# Altium footprint library PHB2.0.PcbLib: 14 footprints
Each footprint in its own frame and in the unit in brackets; x right, y up, seen from the top. Pads: shape width x height; smd on the part's side, far side on the other; paste and mask are expansions set on the pad; w line width, h text height; cw(c..) or ccw(c..) is an arc to the next point about the centre after c.
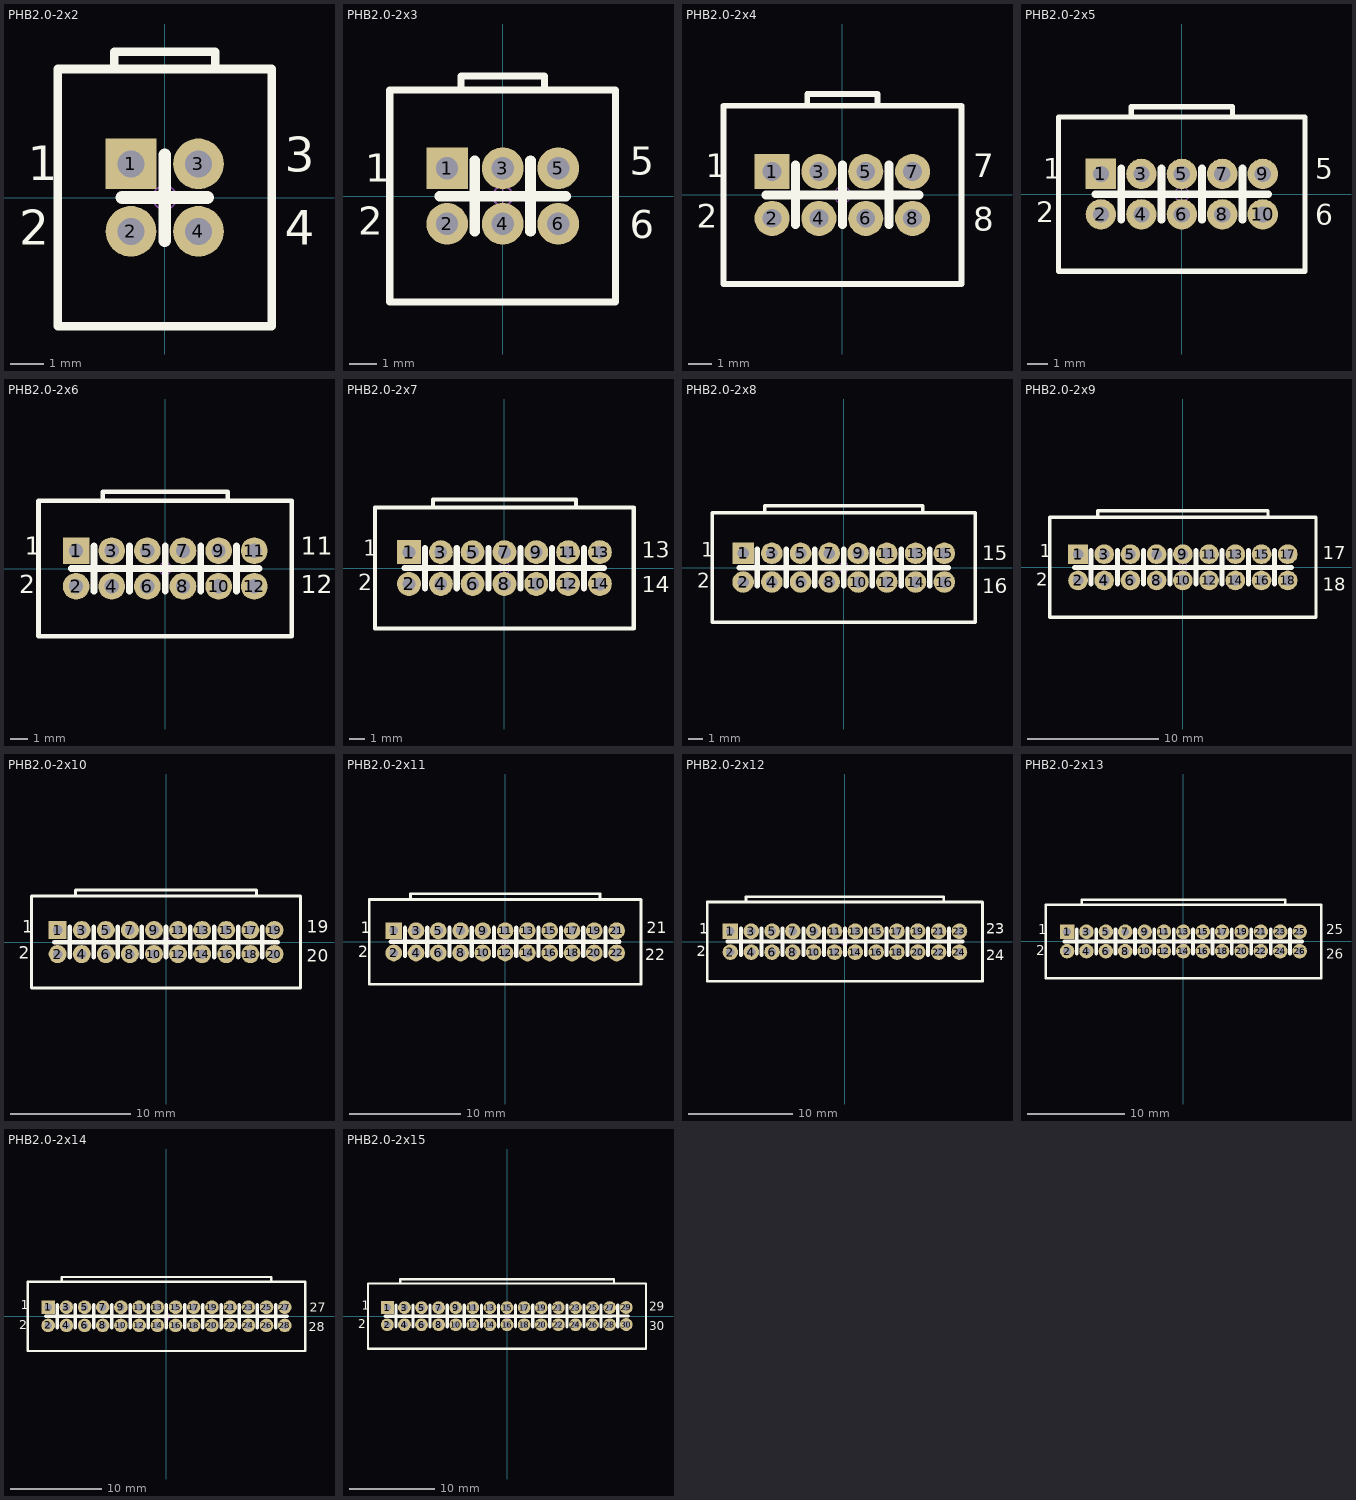
[diagram p0: the footprints below, top view; thin cyan lines are the x and y axes]

## PHB2.0-2x2 [mm] "长：6mm，宽：7.3mm，高：7.8mm"
pads (4):
  rect 1.5x1.5 hole 0.8: 1(-1,1)
  round 1.5 hole 0.8: 2(-1,-1) 3(1,1) 4(1,-1)
Top Overlay:
  lines w0.254: -1.5,3.81 -1.5,4.318 1.5,4.318 1.5,3.81 ; -3.175,-3.81 3.175,-3.81 3.175,3.81 -3.175,3.81 -3.175,-3.81
  lines w0.381: -1.27,0 1.27,0 ; 0,-1.27 0,1.27
  text "1" at -4.064,0.508 h1.02
  text "2" at -4.318,-1.397 h1.02
  text "3" at 3.556,0.762 h1.02
  text "4" at 3.556,-1.397 h1.02
Bottom Overlay:
  lines w0.381: -1.27,0 1.27,0 ; 0,-1.27 0,1.27
Mechanical 15:
  circle w0.05: c0,0 r0.35
  lines w0.05: -0.5,0 0.5,0 ; 0,-0.5 0,0.5
3D body: height 7.83, standoff -3.37, extent -3,-3.65 3,4.25

## PHB2.0-2x3 [mm] "长：8mm，宽：7.3mm，高：7.8mm"
pads (6):
  rect 1.5x1.5 hole 0.8: 1(-2,1)
  round 1.5 hole 0.8: 2(-2,-1) 3(0,1) 4(0,-1) 5(2,1) 6(2,-1)
Top Overlay:
  lines w0.254: -1.5,3.81 -1.5,4.318 1.5,4.318 1.5,3.81 ; -4.064,-3.81 4.064,-3.81 4.064,3.81 -4.064,3.81 -4.064,-3.81
  lines w0.381: -2.27,0 0.27,0 ; -1,-1.27 -1,1.27 ; -0.27,0 2.27,0 ; 1,-1.27 1,1.27
  text "1" at -4.953,0.508 h1.02
  text "5" at 4.572,0.762 h1.02
  text "6" at 4.572,-1.524 h1.02
  text "2" at -5.207,-1.397 h1.02
Bottom Overlay:
  lines w0.381: -2.27,0 0.27,0 ; -1,-1.27 -1,1.27 ; -0.27,0 2.27,0 ; 1,-1.27 1,1.27
Mechanical 15:
  circle w0.05: c0,0 r0.35
  lines w0.05: -0.5,0 0.5,0 ; 0,-0.5 0,0.5
3D body: height 7.83, standoff -3.37, extent -4,-3.65 4,4.25

## PHB2.0-2x4 [mm] "长：10mm，宽：7.3mm，高：7.8mm"
pads (8):
  rect 1.5x1.5 hole 0.8: 1(-3,1)
  round 1.5 hole 0.8: 2(-3,-1) 3(-1,1) 4(-1,-1) 5(1,1) 6(1,-1) 7(3,1) 8(3,-1)
Top Overlay:
  lines w0.254: -1.5,3.81 -1.5,4.318 1.5,4.318 1.5,3.81 ; -5.08,-3.81 -5.08,3.81 5.08,3.81 5.08,-3.81 -5.08,-3.81
  lines w0.381: -3.27,0 -0.73,0 ; -2,-1.27 -2,1.27 ; -1.27,0 1.27,0 ; 0,-1.27 0,1.27 ; 0.73,0 3.27,0 ; 2,-1.27 2,1.27
  text "8" at 5.588,-1.524 h1.02
  text "7" at 5.588,0.762 h1.02
  text "1" at -5.842,0.762 h1.02
  text "2" at -6.207,-1.397 h1.02
Bottom Overlay:
  lines w0.381: -3.27,0 -0.73,0 ; -2,-1.27 -2,1.27 ; -1.27,0 1.27,0 ; 0,-1.27 0,1.27 ; 0.73,0 3.27,0 ; 2,-1.27 2,1.27
Mechanical 15:
  circle w0.05: c0,0 r0.35
  lines w0.05: -0.5,0 0.5,0 ; 0,-0.5 0,0.5
3D body: height 7.83, standoff -3.37, extent -5,-3.65 5,4.25

## PHB2.0-2x5 [mm] "长：12mm，宽：7.3mm，高：7.8mm"
pads (10):
  rect 1.5x1.5 hole 0.8: 1(-4,1)
  round 1.5 hole 0.8: 2(-4,-1) 3(-2,1) 4(-2,-1) 5(0,1) 6(0,-1) 7(2,1) 8(2,-1) 9(4,1) 10(4,-1)
Top Overlay:
  lines w0.254: -2.5,3.81 -2.5,4.318 2.5,4.318 2.5,3.81 ; -6.096,-3.81 -6.096,3.81 6.096,3.81 6.096,-3.81 -6.096,-3.81
  lines w0.381: -4.27,0 -1.73,0 ; -3,-1.27 -3,1.27 ; -2.27,0 0.27,0 ; -1,-1.27 -1,1.27 ; -0.27,0 2.27,0 ; 1,-1.27 1,1.27 ; 1.73,0 4.27,0 ; 3,-1.27 3,1.27
  text "6" at 6.604,-1.524 h1.02
  text "5" at 6.604,0.762 h1.02
  text "1" at -6.858,0.762 h1.02
  text "2" at -7.207,-1.397 h1.02
Bottom Overlay:
  lines w0.381: -4.27,0 -1.73,0 ; -3,-1.27 -3,1.27 ; -2.27,0 0.27,0 ; -1,-1.27 -1,1.27 ; -0.27,0 2.27,0 ; 1,-1.27 1,1.27 ; 1.73,0 4.27,0 ; 3,-1.27 3,1.27
Mechanical 15:
  circle w0.05: c0,0 r0.35
  lines w0.05: -0.5,0 0.5,0 ; 0,-0.5 0,0.5
3D body: height 7.83, standoff -3.37, extent -6,-3.65 6,4.25

## PHB2.0-2x6 [mm] "长：14mm，宽：7.3mm，高：7.8mm"
pads (12):
  rect 1.5x1.5 hole 0.8: 1(-5,1)
  round 1.5 hole 0.8: 2(-5,-1) 3(-3,1) 4(-3,-1) 5(-1,1) 6(-1,-1) 7(1,1) 8(1,-1) 9(3,1) 10(3,-1) 11(5,1) 12(5,-1)
Top Overlay:
  lines w0.254: -3.5,3.81 -3.5,4.318 3.5,4.318 3.5,3.81 ; -7.112,-3.81 7.112,-3.81 7.112,3.81 -7.112,3.81 -7.112,-3.81
  lines w0.381: -5.27,0 -2.73,0 ; -4,-1.27 -4,1.27 ; -3.27,0 -0.73,0 ; -2,-1.27 -2,1.27 ; -1.27,0 1.27,0 ; 0,-1.27 0,1.27 ; 0.73,0 3.27,0 ; 2,-1.27 2,1.27 ; 2.73,0 5.27,0 ; 4,-1.27 4,1.27
  text "12" at 7.62,-1.397 h1.02
  text "1" at -7.874,0.762 h1.02
  text "11" at 7.62,0.762 h1.02
  text "2" at -8.207,-1.397 h1.02
Bottom Overlay:
  lines w0.381: -5.27,0 -2.73,0 ; -4,-1.27 -4,1.27 ; -3.27,0 -0.73,0 ; -2,-1.27 -2,1.27 ; -1.27,0 1.27,0 ; 0,-1.27 0,1.27 ; 0.73,0 3.27,0 ; 2,-1.27 2,1.27 ; 2.73,0 5.27,0 ; 4,-1.27 4,1.27
Mechanical 15:
  circle w0.05: c0,0 r0.35
  lines w0.05: -0.5,0 0.5,0 ; 0,-0.5 0,0.5
3D body: height 7.83, standoff -3.37, extent -7,-3.65 7,4.25

## PHB2.0-2x7 [mm] "长：16mm，宽：7.3mm，高：7.8mm"
pads (14):
  rect 1.5x1.5 hole 0.8: 1(-6,1)
  round 1.5 hole 0.8: 2(-6,-1) 3(-4,1) 4(-4,-1) 5(-2,1) 6(-2,-1) 7(0,1) 8(0,-1) 9(2,1) 10(2,-1) 11(4,1) 12(4,-1) 13(6,1) 14(6,-1)
Top Overlay:
  lines w0.254: -4.5,3.81 -4.5,4.318 4.5,4.318 4.5,3.81 ; -8.128,-3.81 8.128,-3.81 8.128,3.81 -8.128,3.81 -8.128,-3.81
  lines w0.381: -6.27,0 -3.73,0 ; -5,-1.27 -5,1.27 ; -4.27,0 -1.73,0 ; -3,-1.27 -3,1.27 ; -2.27,0 0.27,0 ; -1,-1.27 -1,1.27 ; -0.27,0 2.27,0 ; 1,-1.27 1,1.27 ; 1.73,0 4.27,0 ; 3,-1.27 3,1.27 ; 3.73,0 6.27,0 ; 5,-1.27 5,1.27
  text "14" at 8.636,-1.524 h1.02
  text "1" at -8.89,0.762 h1.02
  text "13" at 8.636,0.635 h1.02
  text "2" at -9.207,-1.397 h1.02
Bottom Overlay:
  lines w0.381: -6.27,0 -3.73,0 ; -5,-1.27 -5,1.27 ; -4.27,0 -1.73,0 ; -3,-1.27 -3,1.27 ; -2.27,0 0.27,0 ; -1,-1.27 -1,1.27 ; -0.27,0 2.27,0 ; 1,-1.27 1,1.27 ; 1.73,0 4.27,0 ; 3,-1.27 3,1.27 ; 3.73,0 6.27,0 ; 5,-1.27 5,1.27
Mechanical 15:
  circle w0.05: c0,0 r0.35
  lines w0.05: -0.5,0 0.5,0 ; 0,-0.5 0,0.5
3D body: height 7.83, standoff -3.37, extent -8,-3.65 8,4.25

## PHB2.0-2x8 [mm] "长：18mm，宽：7.3mm，高：7.8mm"
pads (16):
  rect 1.5x1.5 hole 0.8: 1(-7,1)
  round 1.5 hole 0.8: 2(-7,-1) 3(-5,1) 4(-5,-1) 5(-3,1) 6(-3,-1) 7(-1,1) 8(-1,-1) 9(1,1) 10(1,-1) 11(3,1) 12(3,-1) 13(5,1) 14(5,-1) 15(7,1) 16(7,-1)
Top Overlay:
  lines w0.254: -5.5,3.81 -5.5,4.318 5.5,4.318 5.5,3.81 ; -9.144,-3.81 -9.144,3.81 9.144,3.81 9.144,-3.81 -9.144,-3.81
  lines w0.381: -7.27,0 -4.73,0 ; -6,-1.27 -6,1.27 ; -5.27,0 -2.73,0 ; -4,-1.27 -4,1.27 ; -3.27,0 -0.73,0 ; -2,-1.27 -2,1.27 ; -1.27,0 1.27,0 ; 0,-1.27 0,1.27 ; 0.73,0 3.27,0 ; 2,-1.27 2,1.27 ; 2.73,0 5.27,0 ; 4,-1.27 4,1.27 ; 4.73,0 7.27,0 ; 6,-1.27 6,1.27
  text "16" at 9.652,-1.778 h1.02
  text "15" at 9.652,0.508 h1.02
  text "1" at -9.906,0.762 h1.02
  text "2" at -10.207,-1.397 h1.02
Bottom Overlay:
  lines w0.381: -7.27,0 -4.73,0 ; -6,-1.27 -6,1.27 ; -5.27,0 -2.73,0 ; -4,-1.27 -4,1.27 ; -3.27,0 -0.73,0 ; -2,-1.27 -2,1.27 ; -1.27,0 1.27,0 ; 0,-1.27 0,1.27 ; 0.73,0 3.27,0 ; 2,-1.27 2,1.27 ; 2.73,0 5.27,0 ; 4,-1.27 4,1.27 ; 4.73,0 7.27,0 ; 6,-1.27 6,1.27
Mechanical 15:
  circle w0.05: c0,0 r0.35
  lines w0.05: -0.5,0 0.5,0 ; 0,-0.5 0,0.5
3D body: height 7.83, standoff -3.37, extent -9,-3.65 9,4.25

## PHB2.0-2x9 [mm] "长：20mm，宽：7.3mm，高：7.8mm"
pads (18):
  rect 1.5x1.5 hole 0.8: 1(-8,1)
  round 1.5 hole 0.8: 2(-8,-1) 3(-6,1) 4(-6,-1) 5(-4,1) 6(-4,-1) 7(-2,1) 8(-2,-1) 9(0,1) 10(0,-1) 11(2,1) 12(2,-1) 13(4,1) 14(4,-1) 15(6,1) 16(6,-1) 17(8,1) 18(8,-1)
Top Overlay:
  lines w0.254: -6.5,3.81 -6.5,4.318 6.5,4.318 6.5,3.81 ; -10.16,-3.81 -10.16,3.81 10.16,3.81 10.16,-3.81 -10.16,-3.81
  lines w0.381: -8.27,0 -5.73,0 ; -7,-1.27 -7,1.27 ; -6.27,0 -3.73,0 ; -5,-1.27 -5,1.27 ; -4.27,0 -1.73,0 ; -3,-1.27 -3,1.27 ; -2.27,0 0.27,0 ; -1,-1.27 -1,1.27 ; -0.27,0 2.27,0 ; 1,-1.27 1,1.27 ; 1.73,0 4.27,0 ; 3,-1.27 3,1.27 ; 3.73,0 6.27,0 ; 5,-1.27 5,1.27 ; 5.73,0 8.27,0 ; 7,-1.27 7,1.27
  text "18" at 10.668,-1.778 h1.02
  text "17" at 10.668,0.635 h1.02
  text "1" at -10.922,0.762 h1.02
  text "2" at -11.207,-1.397 h1.02
Bottom Overlay:
  lines w0.381: -8.27,0 -5.73,0 ; -7,-1.27 -7,1.27 ; -6.27,0 -3.73,0 ; -5,-1.27 -5,1.27 ; -4.27,0 -1.73,0 ; -3,-1.27 -3,1.27 ; -2.27,0 0.27,0 ; -1,-1.27 -1,1.27 ; -0.27,0 2.27,0 ; 1,-1.27 1,1.27 ; 1.73,0 4.27,0 ; 3,-1.27 3,1.27 ; 3.73,0 6.27,0 ; 5,-1.27 5,1.27 ; 5.73,0 8.27,0 ; 7,-1.27 7,1.27
Mechanical 15:
  circle w0.05: c0,0 r0.35
  lines w0.05: -0.5,0 0.5,0 ; 0,-0.5 0,0.5
3D body: height 7.83, standoff -3.37, extent -10,-3.65 10,4.25

## PHB2.0-2x10 [mm] "长：22mm，宽：7.3mm，高：7.8mm"
pads (20):
  rect 1.5x1.5 hole 0.8: 1(-9,1)
  round 1.5 hole 0.8: 2(-9,-1) 3(-7,1) 4(-7,-1) 5(-5,1) 6(-5,-1) 7(-3,1) 8(-3,-1) 9(-1,1) 10(-1,-1) 11(1,1) 12(1,-1) 13(3,1) 14(3,-1) 15(5,1) 16(5,-1) 17(7,1) 18(7,-1) 19(9,1) 20(9,-1)
Top Overlay:
  lines w0.254: -7.5,3.81 -7.5,4.318 7.5,4.318 7.5,3.81 ; -11.176,-3.81 -11.176,3.81 11.176,3.81 11.176,-3.81 -11.176,-3.81
  lines w0.381: -9.27,0 -6.73,0 ; -8,-1.27 -8,1.27 ; -7.27,0 -4.73,0 ; -6,-1.27 -6,1.27 ; -5.27,0 -2.73,0 ; -4,-1.27 -4,1.27 ; -3.27,0 -0.73,0 ; -2,-1.27 -2,1.27 ; -1.27,0 1.27,0 ; 0,-1.27 0,1.27 ; 0.73,0 3.27,0 ; 2,-1.27 2,1.27 ; 2.73,0 5.27,0 ; 4,-1.27 4,1.27 ; 4.73,0 7.27,0 ; 6,-1.27 6,1.27 ; 6.73,0 9.27,0 ; 8,-1.27 8,1.27
  text "20" at 11.684,-1.651 h1.02
  text "19" at 11.684,0.762 h1.02
  text "1" at -11.938,0.762 h1.02
  text "2" at -12.207,-1.397 h1.02
Bottom Overlay:
  lines w0.381: -9.27,0 -6.73,0 ; -8,-1.27 -8,1.27 ; -7.27,0 -4.73,0 ; -6,-1.27 -6,1.27 ; -5.27,0 -2.73,0 ; -4,-1.27 -4,1.27 ; -3.27,0 -0.73,0 ; -2,-1.27 -2,1.27 ; -1.27,0 1.27,0 ; 0,-1.27 0,1.27 ; 0.73,0 3.27,0 ; 2,-1.27 2,1.27 ; 2.73,0 5.27,0 ; 4,-1.27 4,1.27 ; 4.73,0 7.27,0 ; 6,-1.27 6,1.27 ; 6.73,0 9.27,0 ; 8,-1.27 8,1.27
Mechanical 15:
  circle w0.05: c0,0 r0.35
  lines w0.05: -0.5,0 0.5,0 ; 0,-0.5 0,0.5
3D body: height 7.83, standoff -3.37, extent -11,-3.65 11,4.25

## PHB2.0-2x11 [mm] "长：24mm，宽：7.3mm，高：7.8mm"
pads (22):
  rect 1.5x1.5 hole 0.8: 1(-10,1)
  round 1.5 hole 0.8: 2(-10,-1) 3(-8,1) 4(-8,-1) 5(-6,1) 6(-6,-1) 7(-4,1) 8(-4,-1) 9(-2,1) 10(-2,-1) 11(0,1) 12(0,-1) 13(2,1) 14(2,-1) 15(4,1) 16(4,-1) 17(6,1) 18(6,-1) 19(8,1) 20(8,-1) 21(10,1) 22(10,-1)
Top Overlay:
  lines w0.254: -8.5,3.81 -8.5,4.318 8.5,4.318 8.5,3.81 ; -12.192,-3.81 12.192,-3.81 12.192,3.81 -12.192,3.81 -12.192,-3.81
  lines w0.381: -10.27,0 -7.73,0 ; -9,-1.27 -9,1.27 ; -8.27,0 -5.73,0 ; -7,-1.27 -7,1.27 ; -6.27,0 -3.73,0 ; -5,-1.27 -5,1.27 ; -4.27,0 -1.73,0 ; -3,-1.27 -3,1.27 ; -2.27,0 0.27,0 ; -1,-1.27 -1,1.27 ; -0.27,0 2.27,0 ; 1,-1.27 1,1.27 ; 1.73,0 4.27,0 ; 3,-1.27 3,1.27 ; 3.73,0 6.27,0 ; 5,-1.27 5,1.27 ; 5.73,0 8.27,0 ; 7,-1.27 7,1.27 ; 7.73,0 10.27,0 ; 9,-1.27 9,1.27
  text "2" at -13.207,-1.397 h1.02
  text "1" at -12.954,0.762 h1.02
  text "21" at 12.7,0.762 h1.02
  text "22" at 12.573,-1.651 h1.02
Bottom Overlay:
  lines w0.381: -10.27,0 -7.73,0 ; -9,-1.27 -9,1.27 ; -8.27,0 -5.73,0 ; -7,-1.27 -7,1.27 ; -6.27,0 -3.73,0 ; -5,-1.27 -5,1.27 ; -4.27,0 -1.73,0 ; -3,-1.27 -3,1.27 ; -2.27,0 0.27,0 ; -1,-1.27 -1,1.27 ; -0.27,0 2.27,0 ; 1,-1.27 1,1.27 ; 1.73,0 4.27,0 ; 3,-1.27 3,1.27 ; 3.73,0 6.27,0 ; 5,-1.27 5,1.27 ; 5.73,0 8.27,0 ; 7,-1.27 7,1.27 ; 7.73,0 10.27,0 ; 9,-1.27 9,1.27
Mechanical 15:
  circle w0.05: c0,0 r0.35
  lines w0.05: -0.5,0 0.5,0 ; 0,-0.5 0,0.5
3D body: height 7.83, standoff -3.37, extent -12,-3.65 12,4.25

## PHB2.0-2x12 [mm] "长：26mm，宽：7.3mm，高：7.8mm"
pads (24):
  rect 1.5x1.5 hole 0.8: 1(-11,1)
  round 1.5 hole 0.8: 2(-11,-1) 3(-9,1) 4(-9,-1) 5(-7,1) 6(-7,-1) 7(-5,1) 8(-5,-1) 9(-3,1) 10(-3,-1) 11(-1,1) 12(-1,-1) 13(1,1) 14(1,-1) 15(3,1) 16(3,-1) 17(5,1) 18(5,-1) 19(7,1) 20(7,-1) 21(9,1) 22(9,-1) 23(11,1) 24(11,-1)
Top Overlay:
  lines w0.254: -9.5,3.81 -9.5,4.318 9.5,4.318 9.5,3.81 ; -13.208,-3.81 13.208,-3.81 13.208,3.81 -13.208,3.81 -13.208,-3.81
  lines w0.381: -11.27,0 -8.73,0 ; -10,-1.27 -10,1.27 ; -9.27,0 -6.73,0 ; -8,-1.27 -8,1.27 ; -7.27,0 -4.73,0 ; -6,-1.27 -6,1.27 ; -5.27,0 -2.73,0 ; -4,-1.27 -4,1.27 ; -3.27,0 -0.73,0 ; -2,-1.27 -2,1.27 ; -1.27,0 1.27,0 ; 0,-1.27 0,1.27 ; 0.73,0 3.27,0 ; 2,-1.27 2,1.27 ; 2.73,0 5.27,0 ; 4,-1.27 4,1.27 ; 4.73,0 7.27,0 ; 6,-1.27 6,1.27 ; 6.73,0 9.27,0 ; 8,-1.27 8,1.27 ; 8.73,0 11.27,0 ; 10,-1.27 10,1.27
  text "2" at -14.207,-1.397 h1.02
  text "1" at -13.97,0.762 h1.02
  text "23" at 13.589,0.762 h1.02
  text "24" at 13.589,-1.778 h1.02
Bottom Overlay:
  lines w0.381: -11.27,0 -8.73,0 ; -10,-1.27 -10,1.27 ; -9.27,0 -6.73,0 ; -8,-1.27 -8,1.27 ; -7.27,0 -4.73,0 ; -6,-1.27 -6,1.27 ; -5.27,0 -2.73,0 ; -4,-1.27 -4,1.27 ; -3.27,0 -0.73,0 ; -2,-1.27 -2,1.27 ; -1.27,0 1.27,0 ; 0,-1.27 0,1.27 ; 0.73,0 3.27,0 ; 2,-1.27 2,1.27 ; 2.73,0 5.27,0 ; 4,-1.27 4,1.27 ; 4.73,0 7.27,0 ; 6,-1.27 6,1.27 ; 6.73,0 9.27,0 ; 8,-1.27 8,1.27 ; 8.73,0 11.27,0 ; 10,-1.27 10,1.27
Mechanical 15:
  circle w0.05: c0,0 r0.35
  lines w0.05: -0.5,0 0.5,0 ; 0,-0.5 0,0.5
3D body: height 7.83, standoff -3.37, extent -13,-3.65 13,4.25

## PHB2.0-2x13 [mm] "长：28mm，宽：7.3mm，高：7.8mm"
pads (26):
  rect 1.5x1.5 hole 0.8: 1(-12,1)
  round 1.5 hole 0.8: 2(-12,-1) 3(-10,1) 4(-10,-1) 5(-8,1) 6(-8,-1) 7(-6,1) 8(-6,-1) 9(-4,1) 10(-4,-1) 11(-2,1) 12(-2,-1) 13(0,1) 14(0,-1) 15(2,1) 16(2,-1) 17(4,1) 18(4,-1) 19(6,1) 20(6,-1) 21(8,1) 22(8,-1) 23(10,1) 24(10,-1) 25(12,1) 26(12,-1)
Top Overlay:
  lines w0.254: -10.5,3.81 -10.5,4.318 10.5,4.318 10.5,3.81 ; -14.224,-3.81 -14.224,3.81 14.224,3.81 14.224,-3.81 -14.224,-3.81
  lines w0.381: -12.27,0 -9.73,0 ; -11,-1.27 -11,1.27 ; -10.27,0 -7.73,0 ; -9,-1.27 -9,1.27 ; -8.27,0 -5.73,0 ; -7,-1.27 -7,1.27 ; -6.27,0 -3.73,0 ; -5,-1.27 -5,1.27 ; -4.27,0 -1.73,0 ; -3,-1.27 -3,1.27 ; -2.27,0 0.27,0 ; -1,-1.27 -1,1.27 ; -0.27,0 2.27,0 ; 1,-1.27 1,1.27 ; 1.73,0 4.27,0 ; 3,-1.27 3,1.27 ; 3.73,0 6.27,0 ; 5,-1.27 5,1.27 ; 5.73,0 8.27,0 ; 7,-1.27 7,1.27 ; 7.73,0 10.27,0 ; 9,-1.27 9,1.27 ; 9.73,0 12.27,0 ; 11,-1.27 11,1.27
  text "2" at -15.207,-1.397 h1.02
  text "26" at 14.732,-1.778 h1.02
  text "25" at 14.732,0.762 h1.02
  text "1" at -14.986,0.762 h1.02
Bottom Overlay:
  lines w0.381: -12.27,0 -9.73,0 ; -11,-1.27 -11,1.27 ; -10.27,0 -7.73,0 ; -9,-1.27 -9,1.27 ; -8.27,0 -5.73,0 ; -7,-1.27 -7,1.27 ; -6.27,0 -3.73,0 ; -5,-1.27 -5,1.27 ; -4.27,0 -1.73,0 ; -3,-1.27 -3,1.27 ; -2.27,0 0.27,0 ; -1,-1.27 -1,1.27 ; -0.27,0 2.27,0 ; 1,-1.27 1,1.27 ; 1.73,0 4.27,0 ; 3,-1.27 3,1.27 ; 3.73,0 6.27,0 ; 5,-1.27 5,1.27 ; 5.73,0 8.27,0 ; 7,-1.27 7,1.27 ; 7.73,0 10.27,0 ; 9,-1.27 9,1.27 ; 9.73,0 12.27,0 ; 11,-1.27 11,1.27
Mechanical 15:
  circle w0.05: c0,0 r0.35
  lines w0.05: -0.5,0 0.5,0 ; 0,-0.5 0,0.5
3D body: height 7.83, standoff -3.37, extent -14,-3.65 14,4.25

## PHB2.0-2x14 [mm] "长：30mm，宽：7.3mm，高：7.8mm"
pads (28):
  rect 1.5x1.5 hole 0.8: 1(-13,1)
  round 1.5 hole 0.8: 2(-13,-1) 3(-11,1) 4(-11,-1) 5(-9,1) 6(-9,-1) 7(-7,1) 8(-7,-1) 9(-5,1) 10(-5,-1) 11(-3,1) 12(-3,-1) 13(-1,1) 14(-1,-1) 15(1,1) 16(1,-1) 17(3,1) 18(3,-1) 19(5,1) 20(5,-1) 21(7,1) 22(7,-1) 23(9,1) 24(9,-1) 25(11,1) 26(11,-1) 27(13,1) 28(13,-1)
Top Overlay:
  lines w0.254: -11.5,3.81 -11.5,4.318 11.5,4.318 11.5,3.81 ; -15.24,-3.81 -15.24,3.81 15.24,3.81 15.24,-3.81 -15.24,-3.81
  lines w0.381: -13.27,0 -10.73,0 ; -12,-1.27 -12,1.27 ; -11.27,0 -8.73,0 ; -10,-1.27 -10,1.27 ; -9.27,0 -6.73,0 ; -8,-1.27 -8,1.27 ; -7.27,0 -4.73,0 ; -6,-1.27 -6,1.27 ; -5.27,0 -2.73,0 ; -4,-1.27 -4,1.27 ; -3.27,0 -0.73,0 ; -2,-1.27 -2,1.27 ; -1.27,0 1.27,0 ; 0,-1.27 0,1.27 ; 0.73,0 3.27,0 ; 2,-1.27 2,1.27 ; 2.73,0 5.27,0 ; 4,-1.27 4,1.27 ; 4.73,0 7.27,0 ; 6,-1.27 6,1.27 ; 6.73,0 9.27,0 ; 8,-1.27 8,1.27 ; 8.73,0 11.27,0 ; 10,-1.27 10,1.27 ; 10.73,0 13.27,0 ; 12,-1.27 12,1.27
  text "2" at -16.207,-1.397 h1.02
  text "28" at 15.621,-1.651 h1.02
  text "27" at 15.748,0.508 h1.02
  text "1" at -16.002,0.762 h1.02
Bottom Overlay:
  lines w0.381: -13.27,0 -10.73,0 ; -12,-1.27 -12,1.27 ; -11.27,0 -8.73,0 ; -10,-1.27 -10,1.27 ; -9.27,0 -6.73,0 ; -8,-1.27 -8,1.27 ; -7.27,0 -4.73,0 ; -6,-1.27 -6,1.27 ; -5.27,0 -2.73,0 ; -4,-1.27 -4,1.27 ; -3.27,0 -0.73,0 ; -2,-1.27 -2,1.27 ; -1.27,0 1.27,0 ; 0,-1.27 0,1.27 ; 0.73,0 3.27,0 ; 2,-1.27 2,1.27 ; 2.73,0 5.27,0 ; 4,-1.27 4,1.27 ; 4.73,0 7.27,0 ; 6,-1.27 6,1.27 ; 6.73,0 9.27,0 ; 8,-1.27 8,1.27 ; 8.73,0 11.27,0 ; 10,-1.27 10,1.27 ; 10.73,0 13.27,0 ; 12,-1.27 12,1.27
Mechanical 15:
  circle w0.05: c0,0 r0.35
  lines w0.05: -0.5,0 0.5,0 ; 0,-0.5 0,0.5
3D body: height 7.83, standoff -3.37, extent -15,-3.65 15,4.25

## PHB2.0-2x15 [mm] "长：32mm，宽：7.3mm，高：7.8mm"
pads (30):
  rect 1.5x1.5 hole 0.8: 1(-14,1)
  round 1.5 hole 0.8: 2(-14,-1) 3(-12,1) 4(-12,-1) 5(-10,1) 6(-10,-1) 7(-8,1) 8(-8,-1) 9(-6,1) 10(-6,-1) 11(-4,1) 12(-4,-1) 13(-2,1) 14(-2,-1) 15(0,1) 16(0,-1) 17(2,1) 18(2,-1) 19(4,1) 20(4,-1) 21(6,1) 22(6,-1) 23(8,1) 24(8,-1) 25(10,1) 26(10,-1) 27(12,1) 28(12,-1) 29(13.938,1.016) 30(13.938,-0.984)
Top Overlay:
  lines w0.254: -12.5,3.81 -12.5,4.318 12.5,4.318 12.5,3.81 ; -16.256,-3.81 -16.256,3.81 16.256,3.81 16.256,-3.81 -16.256,-3.81
  lines w0.381: -14.27,0 -11.73,0 ; -13,-1.27 -13,1.27 ; -12.27,0 -9.73,0 ; -11,-1.27 -11,1.27 ; -10.27,0 -7.73,0 ; -9,-1.27 -9,1.27 ; -8.27,0 -5.73,0 ; -7,-1.27 -7,1.27 ; -6.27,0 -3.73,0 ; -5,-1.27 -5,1.27 ; -4.27,0 -1.73,0 ; -3,-1.27 -3,1.27 ; -2.27,0 0.27,0 ; -1,-1.27 -1,1.27 ; -0.27,0 2.27,0 ; 1,-1.27 1,1.27 ; 1.73,0 4.27,0 ; 3,-1.27 3,1.27 ; 3.73,0 6.27,0 ; 5,-1.27 5,1.27 ; 5.73,0 8.27,0 ; 7,-1.27 7,1.27 ; 7.73,0 10.27,0 ; 9,-1.27 9,1.27 ; 9.73,0 12.27,0 ; 11,-1.27 11,1.27 ; 11.668,0.016 14.208,0.016 ; 12.938,-1.254 12.938,1.286
  text "30" at 16.637,-1.651 h1.02
  text "1" at -17.018,0.762 h1.02
  text "2" at -17.431,-1.413 h1.02
  text "29" at 16.637,0.635 h1.02
Bottom Overlay:
  lines w0.381: -14.27,0 -11.73,0 ; -13,-1.27 -13,1.27 ; -12.27,0 -9.73,0 ; -11,-1.27 -11,1.27 ; -10.27,0 -7.73,0 ; -9,-1.27 -9,1.27 ; -8.27,0 -5.73,0 ; -7,-1.27 -7,1.27 ; -6.27,0 -3.73,0 ; -5,-1.27 -5,1.27 ; -4.27,0 -1.73,0 ; -3,-1.27 -3,1.27 ; -2.27,0 0.27,0 ; -1,-1.27 -1,1.27 ; -0.27,0 2.27,0 ; 1,-1.27 1,1.27 ; 1.73,0 4.27,0 ; 3,-1.27 3,1.27 ; 3.73,0 6.27,0 ; 5,-1.27 5,1.27 ; 5.73,0 8.27,0 ; 7,-1.27 7,1.27 ; 7.73,0 10.27,0 ; 9,-1.27 9,1.27 ; 9.73,0 12.27,0 ; 11,-1.27 11,1.27 ; 11.668,0.016 14.208,0.016 ; 12.938,-1.254 12.938,1.286
Mechanical 15:
  circle w0.05: c0,0 r0.35
  lines w0.05: -0.5,0 0.5,0 ; 0,-0.5 0,0.5
3D body: height 7.83, standoff -3.37, extent -16,-3.65 16,4.25